# EAGLE library part S8B-PHDSS (library con-jst-phd)
JST PHD series header 2.00mm pitch disconnectable crimp style connectors, horizontal (side entry type), 8 pins
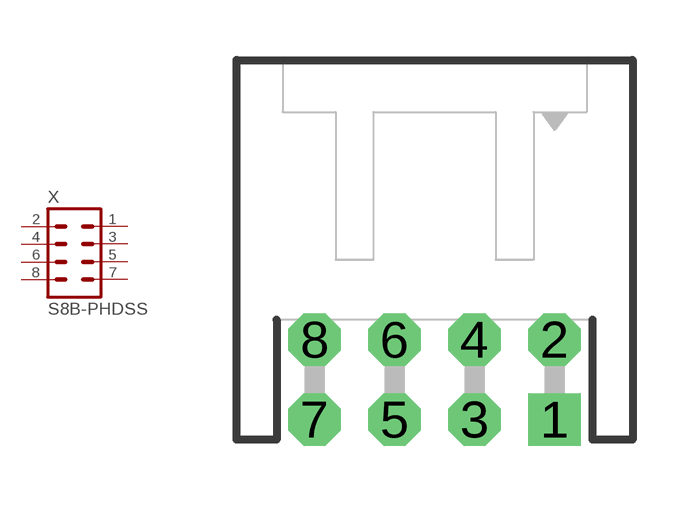
[diagram p14: symbol with the pads of S8B-PHDSS; footprint S8B-PHDSS]

Designator prefix X

## S8B-PHDSS  [S8B-PHDSS]
1  1  pas
2  2  pas
3  3  pas
4  4  pas
5  5  pas
6  6  pas
7  7  pas
8  8  pas

## S8B-PHDSS-B  [S8B-PHDSS]
Pads as for S8B-PHDSS

## Footprint S8B-PHDSS (pad centres in mm)
JST PHD series header 2.00mm pitch disconnectable crimp style connectors, through-hole horizontal (top entry type), 8 pins
drill 0.7 pad 1.321 square: 1 3,-1
drill 0.7 pad 1.321 octagon: 2 3,1; 3 1,-1; 4 1,1; 5 -1,-1; 6 -1,1; 7 -3,-1; 8 -3,1